# Altium integrated library Molex Modular Jack Right Angle.IntLib: 395 symbols (part 4 of 9)
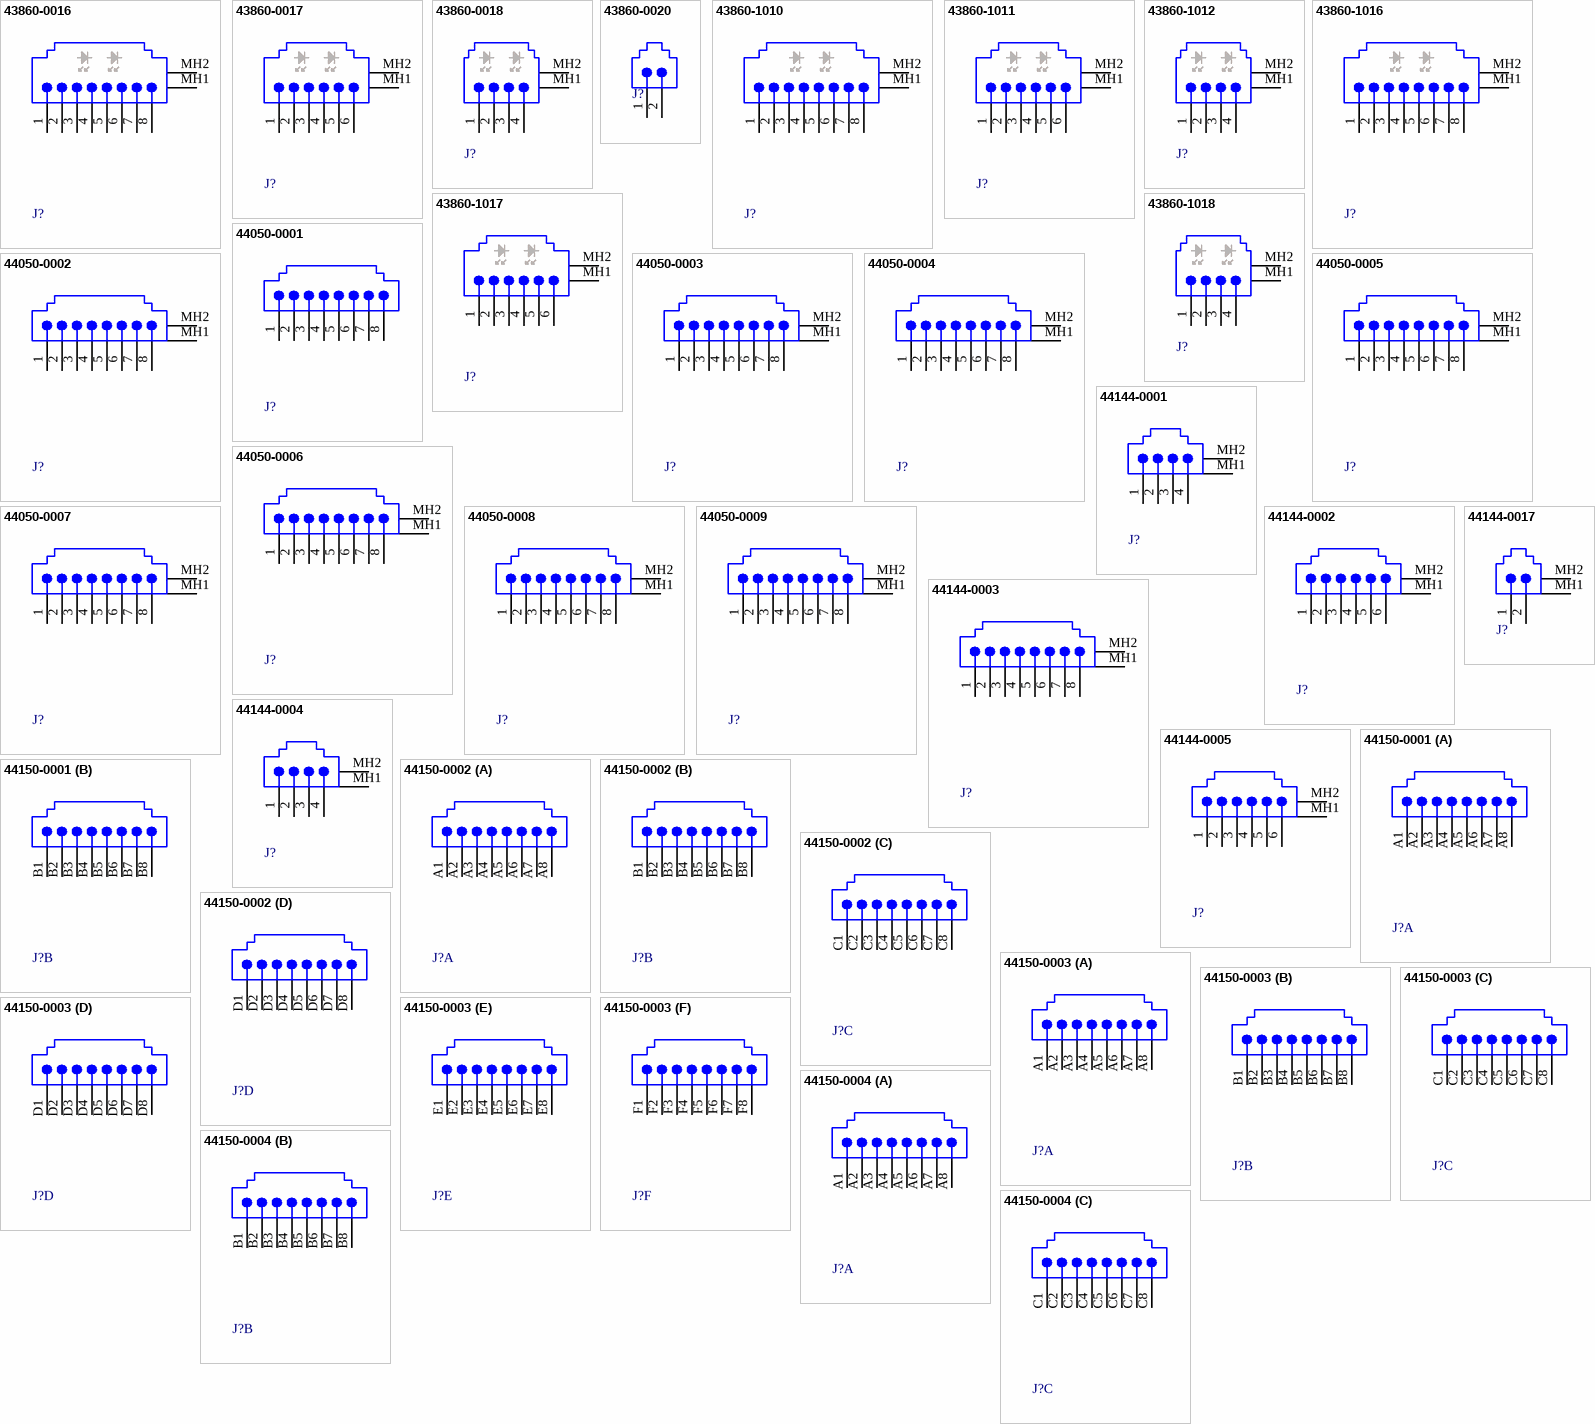
[diagram p27: symbols 43860-0016 to 44150-0004]

## 43860-0017
designator J?
Right Angle, Low Profile, with offset Panel Grounding Tabs, Inverted Shielded Version Modular Jack with Lightpipes; ManufacturerRecommends: LED Package type 0805 or 0603; Ports: 1; Positions/Loaded: Port1 - 6/6; PerformanceCategory: 3; PCB_Mounting: Thru-Hole; PCB_Layout: Shows Position of Manufacturer's Recommended SMT LED, Package Type 0805 shown on Mechanical Layer 1.; DrillSize: Nominal, Rounded to nearest 0.05mm; PCB_Layout: Complies with Manufacturer's Recommendation.; Published: 25-Jun-2002; DatasheetDocument: 17-Dec-2001; PackageDocument: 17-Dec-2001; PackageReference: 43860-0017; Publisher: Altium Limited; ComponentLink1Description: Manufacturer Link; ComponentLink1URL: http://www.molex.com/; ComponentLink2Description: Datasheet; ComponentLink2URL: http://www.molex.com/cmc_upload/common_files/1222003_mx43860b.pdf
footprint 43860-0017 (Connector; PCB Jack, Thru-Hole; 1-Port, 6 Positions, 6 Loaded; Shielded with Lightpipes; Right Angle)
signal-integrity model Modular Jack
pins: 1, 2, 3, 4, 5, 6, MH1 Shield, MH2 Shield

## 43860-0018
designator J?
Right Angle, Low Profile, with offset Panel Grounding Tabs, Inverted Shielded Version Modular Jack with Lightpipes; ManufacturerRecommends: LED Package type 0805 or 0603; Ports: 1; Positions/Loaded: Port1 - 6/4; PerformanceCategory: 3; PCB_Mounting: Thru-Hole; PCB_Layout: Shows Position of Manufacturer's Recommended SMT LED, Package Type 0805 shown on Mechanical Layer 1.; DrillSize: Nominal, Rounded to nearest 0.05mm; PCB_Layout: Complies with Manufacturer's Recommendation.; Published: 25-Jun-2002; DatasheetDocument: 17-Dec-2001; PackageDocument: 17-Dec-2001; PackageReference: 43860-0018; Publisher: Altium Limited; ComponentLink1Description: Manufacturer Link; ComponentLink1URL: http://www.molex.com/; ComponentLink2Description: Datasheet; ComponentLink2URL: http://www.molex.com/cmc_upload/common_files/1222003_mx43860b.pdf
footprint 43860-0018 (Connector; PCB Jack, Thru-Hole; 1-Port, 6 Positions, 4 Loaded; Shielded with Lightpipes; Right Angle)
signal-integrity model Modular Jack
pins: 1, 2, 3, 4, MH1 Shield, MH2 Shield

## 43860-0020
designator J?
Right Angle, Low Profile, Inverted, Unshielded PCB Jack; Ports: 1; Positions/Loaded: Port1 - 6/2; PerformanceCategory: 3; PCB_Mounting: Thru-Hole; DrillSize: Nominal, Rounded to nearest 0.05mm; PCB_Layout: Complies with Manufacturer's Recommendation.; Published: 25-Jun-2002; DatasheetDocument: 18-Dec-2001; PackageDocument: 18-Dec-2001; PackageReference: 43860-0020; Publisher: Altium Limited; ComponentLink1Description: Manufacturer Link; ComponentLink1URL: http://www.molex.com/; ComponentLink2Description: Datasheet; ComponentLink2URL: http://www.molex.com/cmc_upload/common_files/1222003_mx43860a.pdf
footprint 43860-0020 (Connector; PCB Jack, Thru-Hole; 1-Port, 6 Positions, 2 Loaded; Unshielded without Lightpipes; Right Angle)
signal-integrity model Modular Jack
pins: 1, 2

## 43860-1010
designator J?
Right Angle, Low Profile, with all Panel Grounding Tabs, Inverted Shielded Version Modular Jack with High Temperature Lightpipes; ManufacturerRecommends: LED Package type 0805 or 0603; Ports: 1; Positions/Loaded: Port1 - 8/8; PerformanceCategory: 3; PCB_Mounting: Thru-Hole; PCB_Layout: Shows Position of Manufacturer's Recommended SMT LED, Package Type 0805 shown on Mechanical Layer 1.; DrillSize: Nominal, Rounded to nearest 0.05mm; PCB_Layout: Complies with Manufacturer's Recommendation.; Published: 25-Jun-2002; DatasheetDocument: 17-Dec-2001; PackageDocument: 17-Dec-2001; PackageReference: 43860-1010; Publisher: Altium Limited; ComponentLink1Description: Manufacturer Link; ComponentLink1URL: http://www.molex.com/; ComponentLink2Description: Datasheet; ComponentLink2URL: http://www.molex.com/cmc_upload/common_files/1222003_mx43860c.pdf
footprint 43860-1010 (Connector; PCB Jack, Thru-Hole; 1-Port, 8 Positions, 8 Loaded; Shielded with Lightpipes; Right Angle)
signal-integrity model Modular Jack
pins: 1, 2, 3, 4, 5, 6, 7, 8, MH1 Shield, MH2 Shield

## 43860-1011
designator J?
Right Angle, Low Profile, with all Panel Grounding Tabs, Inverted Shielded Version Modular Jack with High Temperature Lightpipes; ManufacturerRecommends: LED Package type 0805 or 0603; Ports: 1; Positions/Loaded: Port1 - 6/6; PerformanceCategory: 3; PCB_Mounting: Thru-Hole; PCB_Layout: Shows Position of Manufacturer's Recommended SMT LED, Package Type 0805 shown on Mechanical Layer 1.; DrillSize: Nominal, Rounded to nearest 0.05mm; PCB_Layout: Complies with Manufacturer's Recommendation.; Published: 25-Jun-2002; DatasheetDocument: 17-Dec-2001; PackageDocument: 17-Dec-2001; PackageReference: 43860-1011; Publisher: Altium Limited; ComponentLink1Description: Manufacturer Link; ComponentLink1URL: http://www.molex.com/; ComponentLink2Description: Datasheet; ComponentLink2URL: http://www.molex.com/cmc_upload/common_files/1222003_mx43860c.pdf
footprint 43860-1011 (Connector; PCB Jack, Thru-Hole; 1-Port, 6 Positions, 6 Loaded; Shielded with Lightpipes; Right Angle)
signal-integrity model Modular Jack
pins: 1, 2, 3, 4, 5, 6, MH1 Shield, MH2 Shield

## 43860-1012
designator J?
Right Angle, Low Profile, with all Panel Grounding Tabs, Inverted Shielded Version Modular Jack with High Temperature Lightpipes; ManufacturerRecommends: LED Package type 0805 or 0603; Ports: 1; Positions/Loaded: Port1 - 6/4; PerformanceCategory: 3; PCB_Mounting: Thru-Hole; PCB_Layout: Shows Position of Manufacturer's Recommended SMT LED, Package Type 0805 shown on Mechanical Layer 1.; DrillSize: Nominal, Rounded to nearest 0.05mm; PCB_Layout: Complies with Manufacturer's Recommendation.; Published: 25-Jun-2002; DatasheetDocument: 17-Dec-2001; PackageDocument: 17-Dec-2001; PackageReference: 43860-1012; Publisher: Altium Limited; ComponentLink1Description: Manufacturer Link; ComponentLink1URL: http://www.molex.com/; ComponentLink2Description: Datasheet; ComponentLink2URL: http://www.molex.com/cmc_upload/common_files/1222003_mx43860c.pdf
footprint 43860-1012 (Connector; PCB Jack, Thru-Hole; 1-Port, 6 Positions, 4 Loaded; Shielded with Lightpipes; Right Angle)
signal-integrity model Modular Jack
pins: 1, 2, 3, 4, MH1 Shield, MH2 Shield

## 43860-1016
designator J?
Right Angle, Low Profile, with offset Panel Grounding Tabs, Inverted Shielded Version Modular Jack with High Temperature Lightpipes; ManufacturerRecommends: LED Package type 0805 or 0603; Ports: 1; Positions/Loaded: Port1 - 8/8; PerformanceCategory: 3; PCB_Mounting: Thru-Hole; PCB_Layout: Shows Position of Manufacturer's Recommended SMT LED, Package Type 0805 shown on Mechanical Layer 1.; DrillSize: Nominal, Rounded to nearest 0.05mm; PCB_Layout: Complies with Manufacturer's Recommendation.; Published: 25-Jun-2002; DatasheetDocument: 17-Dec-2001; PackageDocument: 17-Dec-2001; PackageReference: 43860-1016; Publisher: Altium Limited; ComponentLink1Description: Manufacturer Link; ComponentLink1URL: http://www.molex.com/; ComponentLink2Description: Datasheet; ComponentLink2URL: http://www.molex.com/cmc_upload/common_files/1222003_mx43860c.pdf
footprint 43860-1016 (Connector; PCB Jack, Thru-Hole; 1-Port, 8 Positions, 8 Loaded; Shielded with Lightpipes; Right Angle)
signal-integrity model Modular Jack
pins: 1, 2, 3, 4, 5, 6, 7, 8, MH1 Shield, MH2 Shield

## 43860-1017
designator J?
Right Angle, Low Profile, with offset Panel Grounding Tabs, Inverted Shielded Version Modular Jack with High Temperature Lightpipes; ManufacturerRecommends: LED Package type 0805 or 0603; Ports: 1; Positions/Loaded: Port1 - 6/6; PerformanceCategory: 3; PCB_Mounting: Thru-Hole; PCB_Layout: Shows Position of Manufacturer's Recommended SMT LED, Package Type 0805 shown on Mechanical Layer 1.; DrillSize: Nominal, Rounded to nearest 0.05mm; PCB_Layout: Complies with Manufacturer's Recommendation.; Published: 25-Jun-2002; DatasheetDocument: 17-Dec-2001; PackageDocument: 17-Dec-2001; PackageReference: 43860-1017; Publisher: Altium Limited; ComponentLink1Description: Manufacturer Link; ComponentLink1URL: http://www.molex.com/; ComponentLink2Description: Datasheet; ComponentLink2URL: http://www.molex.com/cmc_upload/common_files/1222003_mx43860c.pdf
footprint 43860-1017 (Connector; PCB Jack, Thru-Hole; 1-Port, 6 Positions, 6 Loaded; Shielded with Lightpipes; Right Angle)
signal-integrity model Modular Jack
pins: 1, 2, 3, 4, 5, 6, MH1 Shield, MH2 Shield

## 43860-1018
designator J?
Right Angle, Low Profile, with offset Panel Grounding Tabs, Inverted Shielded Version Modular Jack with High Temperature Lightpipes; ManufacturerRecommends: LED Package type 0805 or 0603; Ports: 1; Positions/Loaded: Port1 - 6/4; PerformanceCategory: 3; PCB_Mounting: Thru-Hole; PCB_Layout: Shows Position of Manufacturer's Recommended SMT LED, Package Type 0805 shown on Mechanical Layer 1.; DrillSize: Nominal, Rounded to nearest 0.05mm; PCB_Layout: Complies with Manufacturer's Recommendation.; Published: 25-Jun-2002; DatasheetDocument: 17-Dec-2001; PackageDocument: 17-Dec-2001; PackageReference: 43860-1018; Publisher: Altium Limited; ComponentLink1Description: Manufacturer Link; ComponentLink1URL: http://www.molex.com/; ComponentLink2Description: Datasheet; ComponentLink2URL: http://www.molex.com/cmc_upload/common_files/1222003_mx43860c.pdf
footprint 43860-1018 (Connector; PCB Jack, Thru-Hole; 1-Port, 6 Positions, 4 Loaded; Shielded with Lightpipes; Right Angle)
signal-integrity model Modular Jack
pins: 1, 2, 3, 4, MH1 Shield, MH2 Shield

## 44050-0001
designator J?
High Speed, Right Angle, Low Profile Unshielded Modular Jack; Ports: 1; Positions/Loaded: Port1 - 8/8; PerformanceCategory: 5; PCB_Mounting: Thru-Hole; DrillSize: Nominal, Rounded to nearest 0.05mm; PCB_Layout: Complies with Manufacturer's Recommendation.; Published: 25-Jun-2002; DatasheetDocument: 12-Dec-2001; PackageDocument: 12-Dec-2001; PackageReference: 44050-0001; Publisher: Altium Limited; ComponentLink1Description: Manufacturer Link; ComponentLink1URL: http://www.molex.com/; ComponentLink2Description: Datasheet; ComponentLink2URL: http://www.molex.com/cmc_upload/common_files/1222003_mx44050.pdf
footprint 44050-0001 (Connector; PCB Jack, Thru-Hole; 1-Port, 8 Positions, 8 Loaded; Unshielded without Lightpipes; Right Angle)
signal-integrity model Modular Jack
pins: 1, 2, 3, 4, 5, 6, 7, 8

## 44050-0002
designator J?
High Speed, Right Angle, with all Panel Grounding Tabs, Low Profile Shielded Modular Jack; Ports: 1; Positions/Loaded: Port1 - 8/8; PerformanceCategory: 5; PCB_Mounting: Thru-Hole; DrillSize: Nominal, Rounded to nearest 0.05mm; PCB_Layout: Complies with Manufacturer's Recommendation.; Published: 25-Jun-2002; DatasheetDocument: 12-Dec-2001; PackageDocument: 12-Dec-2001; PackageReference: 44050-0002; Publisher: Altium Limited; ComponentLink1Description: Manufacturer Link; ComponentLink1URL: http://www.molex.com/; ComponentLink2Description: Datasheet; ComponentLink2URL: http://www.molex.com/cmc_upload/common_files/1222003_mx44050.pdf
footprint 44050-0002 (Connector; PCB Jack, Thru-Hole; 1-Port, 8 Positions, 8 Loaded; Shielded without Lightpipes; Right Angle)
signal-integrity model Modular Jack
pins: 1, 2, 3, 4, 5, 6, 7, 8, MH1 Shield, MH2 Shield

## 44050-0003
designator J?
High Speed, Right Angle, with all Panel Grounding Tabs, Low Profile Shielded Modular Jack; Ports: 1; Positions/Loaded: Port1 - 8/8; PerformanceCategory: 5; PCB_Mounting: Thru-Hole; DrillSize: Nominal, Rounded to nearest 0.05mm; PCB_Layout: Complies with Manufacturer's Recommendation.; Published: 25-Jun-2002; DatasheetDocument: 12-Dec-2001; PackageDocument: 12-Dec-2001; PackageReference: 44050-0003; Publisher: Altium Limited; ComponentLink1Description: Manufacturer Link; ComponentLink1URL: http://www.molex.com/; ComponentLink2Description: Datasheet; ComponentLink2URL: http://www.molex.com/cmc_upload/common_files/1222003_mx44050.pdf
footprint 44050-0003 (Connector; PCB Jack, Thru-Hole; 1-Port, 8 Positions, 8 Loaded; Shielded without Lightpipes; Right Angle)
signal-integrity model Modular Jack
pins: 1, 2, 3, 4, 5, 6, 7, 8, MH1 Shield, MH2 Shield

## 44050-0004
designator J?
High Speed, Right Angle, with offset Panel Grounding Tabs, Low Profile Shielded Modular Jack; Ports: 1; Positions/Loaded: Port1 - 8/8; PerformanceCategory: 5; PCB_Mounting: Thru-Hole; DrillSize: Nominal, Rounded to nearest 0.05mm; PCB_Layout: Complies with Manufacturer's Recommendation.; Published: 25-Jun-2002; DatasheetDocument: 12-Dec-2001; PackageDocument: 12-Dec-2001; PackageReference: 44050-0004; Publisher: Altium Limited; ComponentLink1Description: Manufacturer Link; ComponentLink1URL: http://www.molex.com/; ComponentLink2Description: Datasheet; ComponentLink2URL: http://www.molex.com/cmc_upload/common_files/1222003_mx44050.pdf
footprint 44050-0004 (Connector; PCB Jack, Thru-Hole; 1-Port, 8 Positions, 8 Loaded; Shielded without Lightpipes; Right Angle)
signal-integrity model Modular Jack
pins: 1, 2, 3, 4, 5, 6, 7, 8, MH1 Shield, MH2 Shield

## 44050-0005
designator J?
High Speed, Right Angle, with offset Panel Grounding Tabs, Low Profile Shielded Modular Jack; Ports: 1; Positions/Loaded: Port1 - 8/8; PerformanceCategory: 5; PCB_Mounting: Thru-Hole; DrillSize: Nominal, Rounded to nearest 0.05mm; PCB_Layout: Complies with Manufacturer's Recommendation.; Published: 25-Jun-2002; DatasheetDocument: 12-Dec-2001; PackageDocument: 12-Dec-2001; PackageReference: 44050-0005; Publisher: Altium Limited; ComponentLink1Description: Manufacturer Link; ComponentLink1URL: http://www.molex.com/; ComponentLink2Description: Datasheet; ComponentLink2URL: http://www.molex.com/cmc_upload/common_files/1222003_mx44050.pdf
footprint 44050-0005 (Connector; PCB Jack, Thru-Hole; 1-Port, 8 Positions, 8 Loaded; Shielded without Lightpipes; Right Angle)
signal-integrity model Modular Jack
pins: 1, 2, 3, 4, 5, 6, 7, 8, MH1 Shield, MH2 Shield

## 44050-0006
designator J?
High Speed, Right Angle, with all Panel Grounding Tabs, Low Profile Shielded Modular Jack; Ports: 1; Positions/Loaded: Port1 - 8/8; PerformanceCategory: 5; PCB_Mounting: Thru-Hole; DrillSize: Nominal, Rounded to nearest 0.05mm; PCB_Layout: Complies with Manufacturer's Recommendation.; Published: 25-Jun-2002; DatasheetDocument: 12-Dec-2001; PackageDocument: 12-Dec-2001; PackageReference: 44050-0006; Publisher: Altium Limited; ComponentLink1Description: Manufacturer Link; ComponentLink1URL: http://www.molex.com/; ComponentLink2Description: Datasheet; ComponentLink2URL: http://www.molex.com/cmc_upload/common_files/1222003_mx44050.pdf
footprint 44050-0006 (Connector; PCB Jack, Thru-Hole; 1-Port, 8 Positions, 8 Loaded; Shielded without Lightpipes; Right Angle)
signal-integrity model Modular Jack
pins: 1, 2, 3, 4, 5, 6, 7, 8, MH1 Shield, MH2 Shield

## 44050-0007
designator J?
High Speed, Right Angle, with all Panel Grounding Tabs, Low Profile Shielded Modular Jack; Ports: 1; Positions/Loaded: Port1 - 8/8; PerformanceCategory: 5; PCB_Mounting: Thru-Hole; DrillSize: Nominal, Rounded to nearest 0.05mm; PCB_Layout: Complies with Manufacturer's Recommendation.; Published: 25-Jun-2002; DatasheetDocument: 12-Dec-2001; PackageDocument: 12-Dec-2001; PackageReference: 44050-0007; Publisher: Altium Limited; ComponentLink1Description: Manufacturer Link; ComponentLink1URL: http://www.molex.com/; ComponentLink2Description: Datasheet; ComponentLink2URL: http://www.molex.com/cmc_upload/common_files/1222003_mx44050.pdf
footprint 44050-0007 (Connector; PCB Jack, Thru-Hole; 1-Port, 8 Positions, 8 Loaded; Shielded without Lightpipes; Right Angle)
signal-integrity model Modular Jack
pins: 1, 2, 3, 4, 5, 6, 7, 8, MH1 Shield, MH2 Shield

## 44050-0008
designator J?
High Speed, Right Angle, with offset Panel Grounding Tabs, Low Profile Shielded Modular Jack; Ports: 1; Positions/Loaded: Port1 - 8/8; PerformanceCategory: 5; PCB_Mounting: Thru-Hole; DrillSize: Nominal, Rounded to nearest 0.05mm; PCB_Layout: Complies with Manufacturer's Recommendation.; Published: 25-Jun-2002; DatasheetDocument: 12-Dec-2001; PackageDocument: 12-Dec-2001; PackageReference: 44050-0008; Publisher: Altium Limited; ComponentLink1Description: Manufacturer Link; ComponentLink1URL: http://www.molex.com/; ComponentLink2Description: Datasheet; ComponentLink2URL: http://www.molex.com/cmc_upload/common_files/1222003_mx44050.pdf
footprint 44050-0008 (Connector; PCB Jack, Thru-Hole; 1-Port, 8 Positions, 8 Loaded; Shielded without Lightpipes; Right Angle)
signal-integrity model Modular Jack
pins: 1, 2, 3, 4, 5, 6, 7, 8, MH1 Shield, MH2 Shield

## 44050-0009
designator J?
High Speed, Right Angle, with offset Panel Grounding Tabs, Low Profile Shielded Modular Jack; Ports: 1; Positions/Loaded: Port1 - 8/8; PerformanceCategory: 5; PCB_Mounting: Thru-Hole; DrillSize: Nominal, Rounded to nearest 0.05mm; PCB_Layout: Complies with Manufacturer's Recommendation.; Published: 25-Jun-2002; DatasheetDocument: 12-Dec-2001; PackageDocument: 12-Dec-2001; PackageReference: 44050-0009; Publisher: Altium Limited; ComponentLink1Description: Manufacturer Link; ComponentLink1URL: http://www.molex.com/; ComponentLink2Description: Datasheet; ComponentLink2URL: http://www.molex.com/cmc_upload/common_files/1222003_mx44050.pdf
footprint 44050-0009 (Connector; PCB Jack, Thru-Hole; 1-Port, 8 Positions, 8 Loaded; Shielded without Lightpipes; Right Angle)
signal-integrity model Modular Jack
pins: 1, 2, 3, 4, 5, 6, 7, 8, MH1 Shield, MH2 Shield

## 44144-0001
designator J?
SMT, Right Angle, Low Profile, with Flush Fitting Nails PCB Jack; Ports: 1; Positions/Loaded: Port1 - 8/4; PerformanceCategory: 3; DrillSize: Nominal, Rounded to nearest 0.05mm; PCB_Layout: Complies with Manufacturer's Recommendation.; Published: 25-Jun-2002; DatasheetDocument: 19-Dec-2001; PackageDocument: 19-Dec-2001; PackageReference: 44144-0001; Publisher: Altium Limited; PCB_Mounting: SMT; ComponentLink1Description: Manufacturer Link; ComponentLink1URL: http://www.molex.com/; ComponentLink2Description: Datasheet; ComponentLink2URL: http://www.molex.com/cmc_upload/common_files/1222003_mx44144.pdf
footprint 44144-0001 (Connector; PCB Jack, SM; 1-Port, 8 Positions, 4 Loaded; Unshielded without Lightpipes; Right Angle)
signal-integrity model Modular Jack
pins: 1, 2, 3, 4, MH1 Shield, MH2 Shield

## 44144-0002
designator J?
SMT, Right Angle, Low Profile, with Flush Fitting Nails PCB Jack; Ports: 1; Positions/Loaded: Port1 - 8/6; PerformanceCategory: 3; DrillSize: Nominal, Rounded to nearest 0.05mm; PCB_Layout: Complies with Manufacturer's Recommendation.; Published: 25-Jun-2002; DatasheetDocument: 19-Dec-2001; PackageDocument: 19-Dec-2001; PackageReference: 44144-0002; Publisher: Altium Limited; PCB_Mounting: SMT; ComponentLink1Description: Manufacturer Link; ComponentLink1URL: http://www.molex.com/; ComponentLink2Description: Datasheet; ComponentLink2URL: http://www.molex.com/cmc_upload/common_files/1222003_mx44144.pdf
footprint 44144-0002 (Connector; PCB Jack, SM; 1-Port, 8 Positions, 6 Loaded; Unshielded without Lightpipes; Right Angle)
signal-integrity model Modular Jack
pins: 1, 2, 3, 4, 5, 6, MH1 Shield, MH2 Shield

## 44144-0003
designator J?
SMT, Right Angle, Low Profile, with Flush Fitting Nails PCB Jack; Ports: 1; Positions/Loaded: Port1 - 8/8; PerformanceCategory: 3; DrillSize: Nominal, Rounded to nearest 0.05mm; PCB_Layout: Complies with Manufacturer's Recommendation.; Published: 25-Jun-2002; DatasheetDocument: 19-Dec-2001; PackageDocument: 19-Dec-2001; PackageReference: 44144-0003; Publisher: Altium Limited; PCB_Mounting: SMT; ComponentLink1Description: Manufacturer Link; ComponentLink1URL: http://www.molex.com/; ComponentLink2Description: Datasheet; ComponentLink2URL: http://www.molex.com/cmc_upload/common_files/1222003_mx44144.pdf
footprint 44144-0003 (Connector; PCB Jack, SM; 1-Port, 8 Positions, 8 Loaded; Unshielded without Lightpipes; Right Angle)
signal-integrity model Modular Jack
pins: 1, 2, 3, 4, 5, 6, 7, 8, MH1 Shield, MH2 Shield

## 44144-0004
designator J?
SMT, Right Angle, Low Profile, with Flush Fitting Nails PCB Jack; Ports: 1; Positions/Loaded: Port1 - 6/4; PerformanceCategory: 3; DrillSize: Nominal, Rounded to nearest 0.05mm; PCB_Layout: Complies with Manufacturer's Recommendation.; Published: 25-Jun-2002; DatasheetDocument: 19-Dec-2001; PackageDocument: 19-Dec-2001; PackageReference: 44144-0004; Publisher: Altium Limited; PCB_Mounting: SMT; ComponentLink1Description: Manufacturer Link; ComponentLink1URL: http://www.molex.com/; ComponentLink2Description: Datasheet; ComponentLink2URL: http://www.molex.com/cmc_upload/common_files/1222003_mx44144.pdf
footprint 44144-0004 (Connector; PCB Jack, SM; 1-Port, 6 Positions, 4 Loaded; Unshielded without Lightpipes; Right Angle)
signal-integrity model Modular Jack
pins: 1, 2, 3, 4, MH1 Shield, MH2 Shield

## 44144-0005
designator J?
SMT, Right Angle, Low Profile, with Flush Fitting Nails PCB Jack; Ports: 1; Positions/Loaded: Port1 - 6/6; PerformanceCategory: 3; DrillSize: Nominal, Rounded to nearest 0.05mm; PCB_Layout: Complies with Manufacturer's Recommendation.; Published: 25-Jun-2002; DatasheetDocument: 19-Dec-2001; PackageDocument: 19-Dec-2001; PackageReference: 44144-0005; Publisher: Altium Limited; PCB_Mounting: SMT; ComponentLink1Description: Manufacturer Link; ComponentLink1URL: http://www.molex.com/; ComponentLink2Description: Datasheet; ComponentLink2URL: http://www.molex.com/cmc_upload/common_files/1222003_mx44144.pdf
footprint 44144-0005 (Connector; PCB Jack, SM; 1-Port, 6 Positions, 6 Loaded; Unshielded without Lightpipes; Right Angle)
signal-integrity model Modular Jack
pins: 1, 2, 3, 4, 5, 6, MH1 Shield, MH2 Shield

## 44144-0017
designator J?
SMT, Right Angle, Low Profile, with Flush Fitting Nails PCB Jack; Ports: 1; Positions/Loaded: Port1 - 6/2; PerformanceCategory: 3; DrillSize: Nominal, Rounded to nearest 0.05mm; PCB_Layout: Complies with Manufacturer's Recommendation.; Published: 25-Jun-2002; DatasheetDocument: 19-Dec-2001; PackageDocument: 19-Dec-2001; PackageReference: 44144-0017; Publisher: Altium Limited; PCB_Mounting: SMT; ComponentLink1Description: Manufacturer Link; ComponentLink1URL: http://www.molex.com/; ComponentLink2Description: Datasheet; ComponentLink2URL: http://www.molex.com/cmc_upload/common_files/1222003_mx44144.pdf
footprint 44144-0017 (Connector; PCB Jack, SM; 1-Port, 6 Positions, 2 Loaded; Unshielded without Lightpipes; Right Angle)
signal-integrity model Modular Jack
pins: 1, 2, MH1 Shield, MH2 Shield

## 44150-0001
designator J?
High Speed, Ganged, Right Angle, Snap-Fit Pegs, Low Profile Unshielded, Modular Jack; Ports: 2; Positions/Loaded: All Ports - 8/8; PerformanceCategory: 5; PCB_Mounting: Thru-Hole; DrillSize: Nominal, Rounded to nearest 0.05mm; PCB_Layout: Complies with Manufacturer's Recommendation.; Published: 25-Jun-2002; DatasheetDocument: 12-Dec-2001; PackageDocument: 12-Dec-2001; PackageReference: 44150-0001; Publisher: Altium Limited; ComponentLink1Description: Manufacturer Link; ComponentLink1URL: http://www.molex.com/; ComponentLink2Description: Datasheet; ComponentLink2URL: http://www.molex.com/cmc_upload/common_files/1222003_mx44150.pdf
footprint 44150-0001 (Connector; PCB Jack, Thru-Hole; 2-Port, 8 Positions, 8 Loaded; Unshielded without Lightpipes; Right Angle)
signal-integrity model Modular Jack
part A pins: A1, A2, A3, A4, A5, A6, A7, A8
part B pins: B1, B2, B3, B4, B5, B6, B7, B8

## 44150-0002
designator J?
High Speed, Ganged, Right Angle, Snap-Fit Pegs, Low Profile Unshielded, Modular Jack; Ports: 4; Positions/Loaded: All Ports - 8/8; PerformanceCategory: 5; PCB_Mounting: Thru-Hole; DrillSize: Nominal, Rounded to nearest 0.05mm; PCB_Layout: Complies with Manufacturer's Recommendation.; Published: 25-Jun-2002; DatasheetDocument: 12-Dec-2001; PackageDocument: 12-Dec-2001; PackageReference: 44150-0002; Publisher: Altium Limited; ComponentLink1Description: Manufacturer Link; ComponentLink1URL: http://www.molex.com/; ComponentLink2Description: Datasheet; ComponentLink2URL: http://www.molex.com/cmc_upload/common_files/1222003_mx44150.pdf
footprint 44150-0002 (Connector; PCB Jack, Thru-Hole; 4-Port, 8 Positions, 8 Loaded; Unshielded without Lightpipes; Right Angle)
signal-integrity model Modular Jack
part A pins: A1, A2, A3, A4, A5, A6, A7, A8
part B pins: B1, B2, B3, B4, B5, B6, B7, B8
part C pins: C1, C2, C3, C4, C5, C6, C7, C8
part D pins: D1, D2, D3, D4, D5, D6, D7, D8

## 44150-0003
designator J?
High Speed, Ganged, Right Angle, Snap-Fit Pegs, Low Profile Unshielded, Modular Jack; Ports: 6; Positions/Loaded: All Ports - 8/8; PerformanceCategory: 5; PCB_Mounting: Thru-Hole; DrillSize: Nominal, Rounded to nearest 0.05mm; PCB_Layout: Complies with Manufacturer's Recommendation.; Published: 25-Jun-2002; DatasheetDocument: 12-Dec-2001; PackageDocument: 12-Dec-2001; PackageReference: 44150-0003; Publisher: Altium Limited; ComponentLink1Description: Manufacturer Link; ComponentLink1URL: http://www.molex.com/; ComponentLink2Description: Datasheet; ComponentLink2URL: http://www.molex.com/cmc_upload/common_files/1222003_mx44150.pdf
footprint 44150-0003 (Connector; PCB Jack, Thru-Hole; 6-Port, 8 Positions, 8 Loaded; Unshielded without Lightpipes; Right Angle)
signal-integrity model Modular Jack
part A pins: A1, A2, A3, A4, A5, A6, A7, A8
part B pins: B1, B2, B3, B4, B5, B6, B7, B8
part C pins: C1, C2, C3, C4, C5, C6, C7, C8
part D pins: D1, D2, D3, D4, D5, D6, D7, D8
part E pins: E1, E2, E3, E4, E5, E6, E7, E8
part F pins: F1, F2, F3, F4, F5, F6, F7, F8

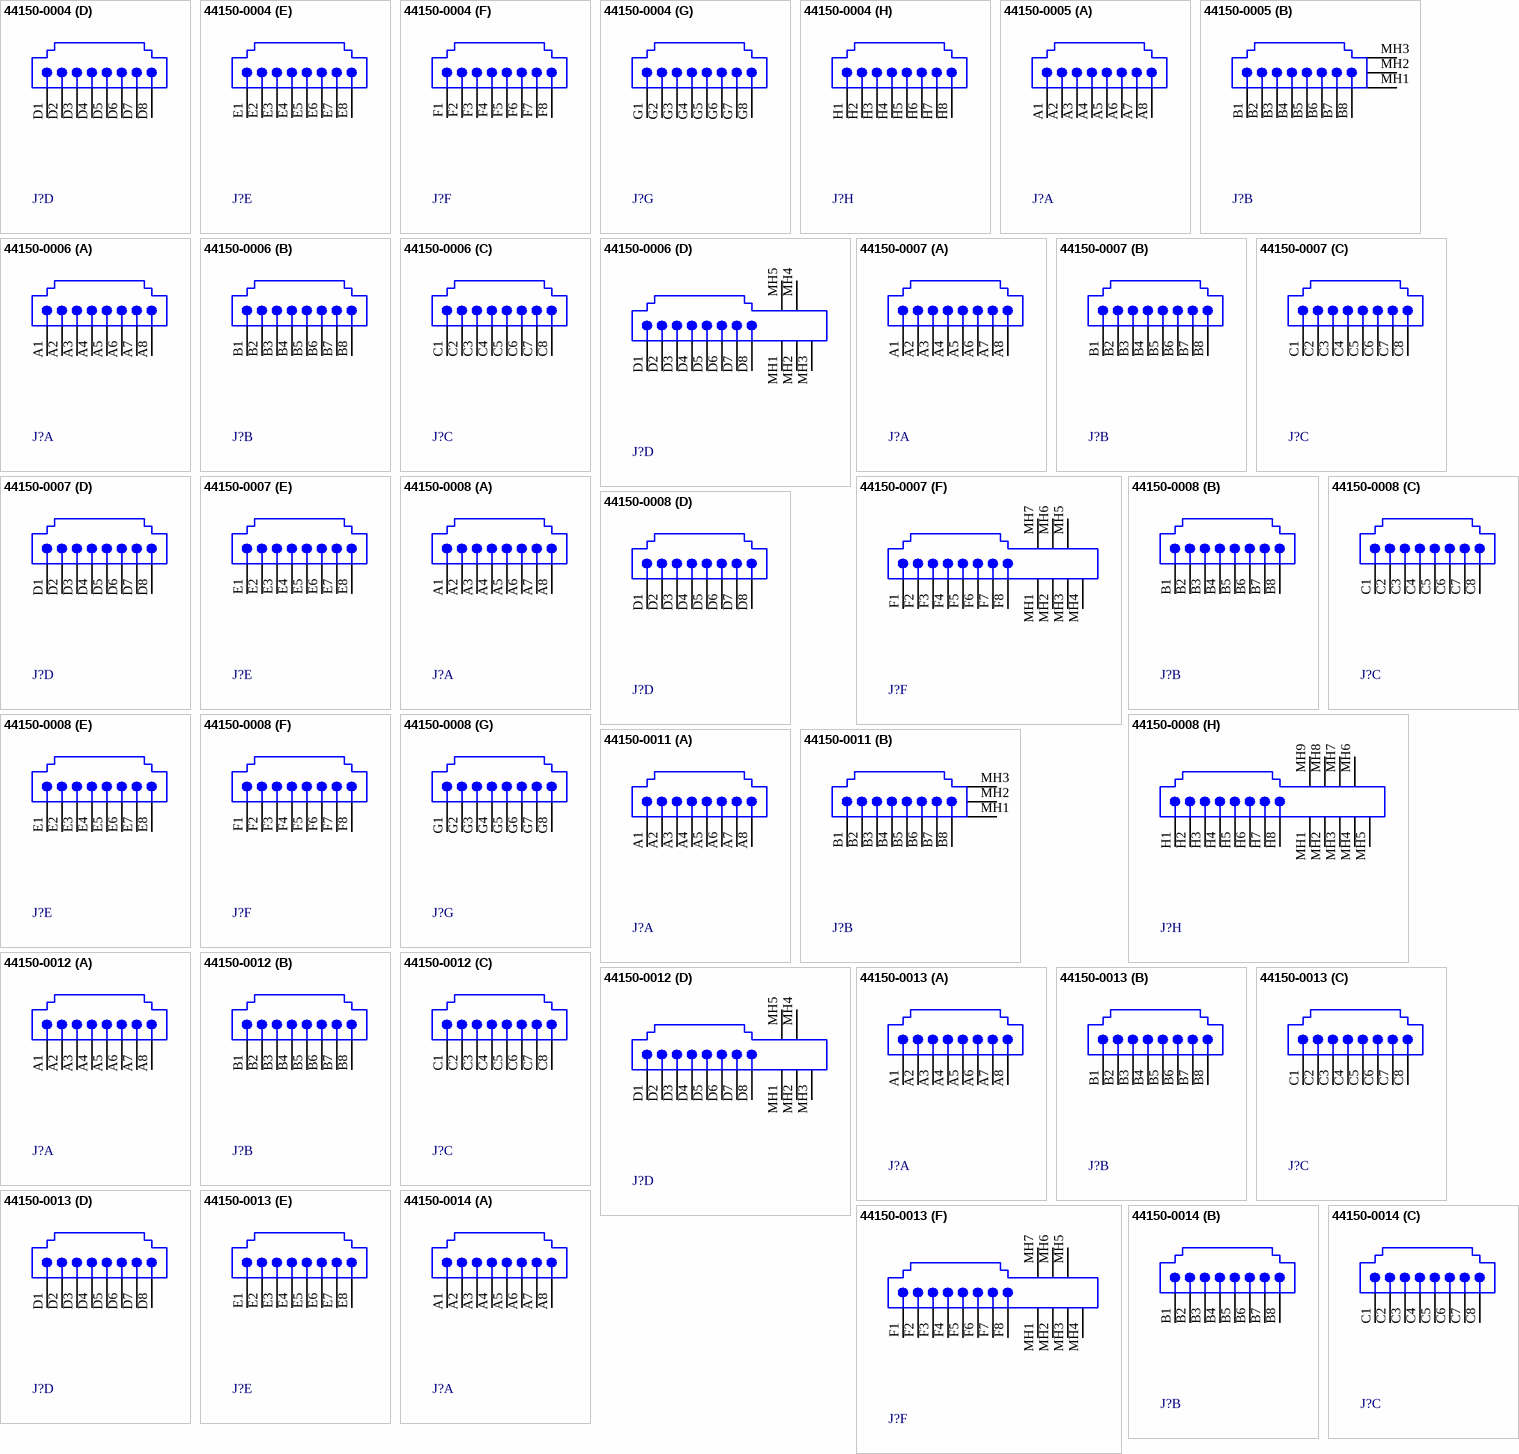
[diagram p8: symbols 44150-0004 to 44150-0014]

## 44150-0004
designator J?
High Speed, Ganged, Right Angle, Snap-Fit Pegs, Low Profile Unshielded, Modular Jack; Ports: 8; Positions/Loaded: All Ports - 8/8; PerformanceCategory: 5; PCB_Mounting: Thru-Hole; DrillSize: Nominal, Rounded to nearest 0.05mm; PCB_Layout: Complies with Manufacturer's Recommendation.; Published: 25-Jun-2002; DatasheetDocument: 12-Dec-2001; PackageDocument: 12-Dec-2001; PackageReference: 44150-0004; Publisher: Altium Limited; ComponentLink1Description: Manufacturer Link; ComponentLink1URL: http://www.molex.com/; ComponentLink2Description: Datasheet; ComponentLink2URL: http://www.molex.com/cmc_upload/common_files/1222003_mx44150.pdf
footprint 44150-0004 (Connector; PCB Jack, Thru-Hole; 8-Port, 8 Positions, 8 Loaded; Unshielded without Lightpipes; Right Angle)
signal-integrity model Modular Jack
part A pins: A1, A2, A3, A4, A5, A6, A7, A8
part B pins: B1, B2, B3, B4, B5, B6, B7, B8
part C pins: C1, C2, C3, C4, C5, C6, C7, C8
part D pins: D1, D2, D3, D4, D5, D6, D7, D8
part E pins: E1, E2, E3, E4, E5, E6, E7, E8
part F pins: F1, F2, F3, F4, F5, F6, F7, F8
part G pins: G1, G2, G3, G4, G5, G6, G7, G8
part H pins: H1, H2, H3, H4, H5, H6, H7, H8

## 44150-0005
designator J?
High Speed, Ganged, Right Angle, Snap-Fit Pegs, Low Profile Shielded, Modular Jack; Ports: 2; Positions/Loaded: All Ports - 8/8; PerformanceCategory: 5; PCB_Mounting: Thru-Hole; DrillSize: Nominal, Rounded to nearest 0.05mm; PCB_Layout: Complies with Manufacturer's Recommendation.; Published: 25-Jun-2002; DatasheetDocument: 12-Dec-2001; PackageDocument: 12-Dec-2001; PackageReference: 44150-0005; Publisher: Altium Limited; ComponentLink1Description: Manufacturer Link; ComponentLink1URL: http://www.molex.com/; ComponentLink2Description: Datasheet; ComponentLink2URL: http://www.molex.com/cmc_upload/common_files/1222003_mx44150.pdf
footprint 44150-0005 (Connector; PCB Jack, Thru-Hole; 2-Port, 8 Positions, 8 Loaded; Shielded without Lightpipes; Right Angle)
signal-integrity model Modular Jack
part A pins: A1, A2, A3, A4, A5, A6, A7, A8
part B pins: B1, B2, B3, B4, B5, B6, B7, B8, MH1 Shield, MH2 Shield, MH3 Shield

## 44150-0006
designator J?
High Speed, Ganged, Right Angle, Snap-Fit Pegs, Low Profile Shielded, Modular Jack; Ports: 4; Positions/Loaded: All Ports - 8/8; PerformanceCategory: 5; PCB_Mounting: Thru-Hole; DrillSize: Nominal, Rounded to nearest 0.05mm; PCB_Layout: Complies with Manufacturer's Recommendation.; Published: 25-Jun-2002; DatasheetDocument: 12-Dec-2001; PackageDocument: 12-Dec-2001; PackageReference: 44150-0006; Publisher: Altium Limited; ComponentLink1Description: Manufacturer Link; ComponentLink1URL: http://www.molex.com/; ComponentLink2Description: Datasheet; ComponentLink2URL: http://www.molex.com/cmc_upload/common_files/1222003_mx44150.pdf
footprint 44150-0006 (Connector; PCB Jack, Thru-Hole; 4-Port, 8 Positions, 8 Loaded; Shielded without Lightpipes; Right Angle)
signal-integrity model Modular Jack
part A pins: A1, A2, A3, A4, A5, A6, A7, A8
part B pins: B1, B2, B3, B4, B5, B6, B7, B8
part C pins: C1, C2, C3, C4, C5, C6, C7, C8
part D pins: D1, D2, D3, D4, D5, D6, D7, D8, MH1 Shield, MH2 Shield, MH3 Shield, MH4 Shield, MH5 Shield

## 44150-0007
designator J?
High Speed, Ganged, Right Angle, Snap-Fit Pegs, Low Profile Shielded, Modular Jack; Ports: 6; Positions/Loaded: All Ports - 8/8; PerformanceCategory: 5; PCB_Mounting: Thru-Hole; DrillSize: Nominal, Rounded to nearest 0.05mm; PCB_Layout: Complies with Manufacturer's Recommendation.; Published: 25-Jun-2002; DatasheetDocument: 12-Dec-2001; PackageDocument: 12-Dec-2001; PackageReference: 44150-0007; Publisher: Altium Limited; ComponentLink1Description: Manufacturer Link; ComponentLink1URL: http://www.molex.com/; ComponentLink2Description: Datasheet; ComponentLink2URL: http://www.molex.com/cmc_upload/common_files/1222003_mx44150.pdf
footprint 44150-0007 (Connector; PCB Jack, Thru-Hole; 6-Port, 8 Positions, 8 Loaded; Shielded without Lightpipes; Right Angle)
signal-integrity model Modular Jack
part A pins: A1, A2, A3, A4, A5, A6, A7, A8
part B pins: B1, B2, B3, B4, B5, B6, B7, B8
part C pins: C1, C2, C3, C4, C5, C6, C7, C8
part D pins: D1, D2, D3, D4, D5, D6, D7, D8
part E pins: E1, E2, E3, E4, E5, E6, E7, E8
part F pins: F1, F2, F3, F4, F5, F6, F7, F8, MH1 Shield, MH2 Shield, MH3 Shield, MH4 Shield, MH5 Shield, MH6 Shield, MH7 Shield

## 44150-0008
designator J?
High Speed, Ganged, Right Angle, Snap-Fit Pegs, Low Profile Shielded, Modular Jack; Ports: 8; Positions/Loaded: All Ports - 8/8; PerformanceCategory: 5; PCB_Mounting: Thru-Hole; DrillSize: Nominal, Rounded to nearest 0.05mm; PCB_Layout: Complies with Manufacturer's Recommendation.; Published: 25-Jun-2002; DatasheetDocument: 12-Dec-2001; PackageDocument: 12-Dec-2001; PackageReference: 44150-0008; Publisher: Altium Limited; ComponentLink1Description: Manufacturer Link; ComponentLink1URL: http://www.molex.com/; ComponentLink2Description: Datasheet; ComponentLink2URL: http://www.molex.com/cmc_upload/common_files/1222003_mx44150.pdf
footprint 44150-0008 (Connector; PCB Jack, Thru-Hole; 8-Port, 8 Positions, 8 Loaded; Shielded without Lightpipes; Right Angle)
signal-integrity model Modular Jack
part A pins: A1, A2, A3, A4, A5, A6, A7, A8
part B pins: B1, B2, B3, B4, B5, B6, B7, B8
part C pins: C1, C2, C3, C4, C5, C6, C7, C8
part D pins: D1, D2, D3, D4, D5, D6, D7, D8
part E pins: E1, E2, E3, E4, E5, E6, E7, E8
part F pins: F1, F2, F3, F4, F5, F6, F7, F8
part G pins: G1, G2, G3, G4, G5, G6, G7, G8
part H pins: H1, H2, H3, H4, H5, H6, H7, H8, MH1 Shield, MH2 Shield, MH3 Shield, MH4 Shield, MH5 Shield, MH6 Shield, MH7 Shield, MH8 Shield, MH9 Shield

## 44150-0011
designator J?
High Speed, Ganged, Right Angle, Snap-Fit Pegs, Low Profile Shielded, Modular Jack; Ports: 2; Positions/Loaded: All Ports - 8/8; PerformanceCategory: 5; PCB_Mounting: Thru-Hole; DrillSize: Nominal, Rounded to nearest 0.05mm; PCB_Layout: Complies with Manufacturer's Recommendation.; Published: 25-Jun-2002; DatasheetDocument: 12-Dec-2001; PackageDocument: 12-Dec-2001; PackageReference: 44150-0011; Publisher: Altium Limited; ComponentLink1Description: Manufacturer Link; ComponentLink1URL: http://www.molex.com/; ComponentLink2Description: Datasheet; ComponentLink2URL: http://www.molex.com/cmc_upload/common_files/1222003_mx44150.pdf
footprint 44150-0011 (Connector; PCB Jack, Thru-Hole; 2-Port, 8 Positions, 8 Loaded; Shielded without Lightpipes; Right Angle)
signal-integrity model Modular Jack
part A pins: A1, A2, A3, A4, A5, A6, A7, A8
part B pins: B1, B2, B3, B4, B5, B6, B7, B8, MH1 Shield, MH2 Shield, MH3 Shield

## 44150-0012
designator J?
High Speed, Ganged, Right Angle, Snap-Fit Pegs, Low Profile Shielded, Modular Jack; Ports: 4; Positions/Loaded: All Ports - 8/8; PerformanceCategory: 5; PCB_Mounting: Thru-Hole; DrillSize: Nominal, Rounded to nearest 0.05mm; PCB_Layout: Complies with Manufacturer's Recommendation.; Published: 25-Jun-2002; DatasheetDocument: 12-Dec-2001; PackageDocument: 12-Dec-2001; PackageReference: 44150-0012; Publisher: Altium Limited; ComponentLink1Description: Manufacturer Link; ComponentLink1URL: http://www.molex.com/; ComponentLink2Description: Datasheet; ComponentLink2URL: http://www.molex.com/cmc_upload/common_files/1222003_mx44150.pdf
footprint 44150-0012 (Connector; PCB Jack, Thru-Hole; 4-Port, 8 Positions, 8 Loaded; Shielded without Lightpipes; Right Angle)
signal-integrity model Modular Jack
part A pins: A1, A2, A3, A4, A5, A6, A7, A8
part B pins: B1, B2, B3, B4, B5, B6, B7, B8
part C pins: C1, C2, C3, C4, C5, C6, C7, C8
part D pins: D1, D2, D3, D4, D5, D6, D7, D8, MH1 Shield, MH2 Shield, MH3 Shield, MH4 Shield, MH5 Shield

## 44150-0013
designator J?
High Speed, Ganged, Right Angle, Snap-Fit Pegs, Low Profile Shielded, Modular Jack; Ports: 6; Positions/Loaded: All Ports - 8/8; PerformanceCategory: 5; PCB_Mounting: Thru-Hole; DrillSize: Nominal, Rounded to nearest 0.05mm; PCB_Layout: Complies with Manufacturer's Recommendation.; Published: 25-Jun-2002; DatasheetDocument: 12-Dec-2001; PackageDocument: 12-Dec-2001; PackageReference: 44150-0013; Publisher: Altium Limited; ComponentLink1Description: Manufacturer Link; ComponentLink1URL: http://www.molex.com/; ComponentLink2Description: Datasheet; ComponentLink2URL: http://www.molex.com/cmc_upload/common_files/1222003_mx44150.pdf
footprint 44150-0013 (Connector; PCB Jack, Thru-Hole; 6-Port, 8 Positions, 8 Loaded; Shielded without Lightpipes; Right Angle)
signal-integrity model Modular Jack
part A pins: A1, A2, A3, A4, A5, A6, A7, A8
part B pins: B1, B2, B3, B4, B5, B6, B7, B8
part C pins: C1, C2, C3, C4, C5, C6, C7, C8
part D pins: D1, D2, D3, D4, D5, D6, D7, D8
part E pins: E1, E2, E3, E4, E5, E6, E7, E8
part F pins: F1, F2, F3, F4, F5, F6, F7, F8, MH1 Shield, MH2 Shield, MH3 Shield, MH4 Shield, MH5 Shield, MH6 Shield, MH7 Shield

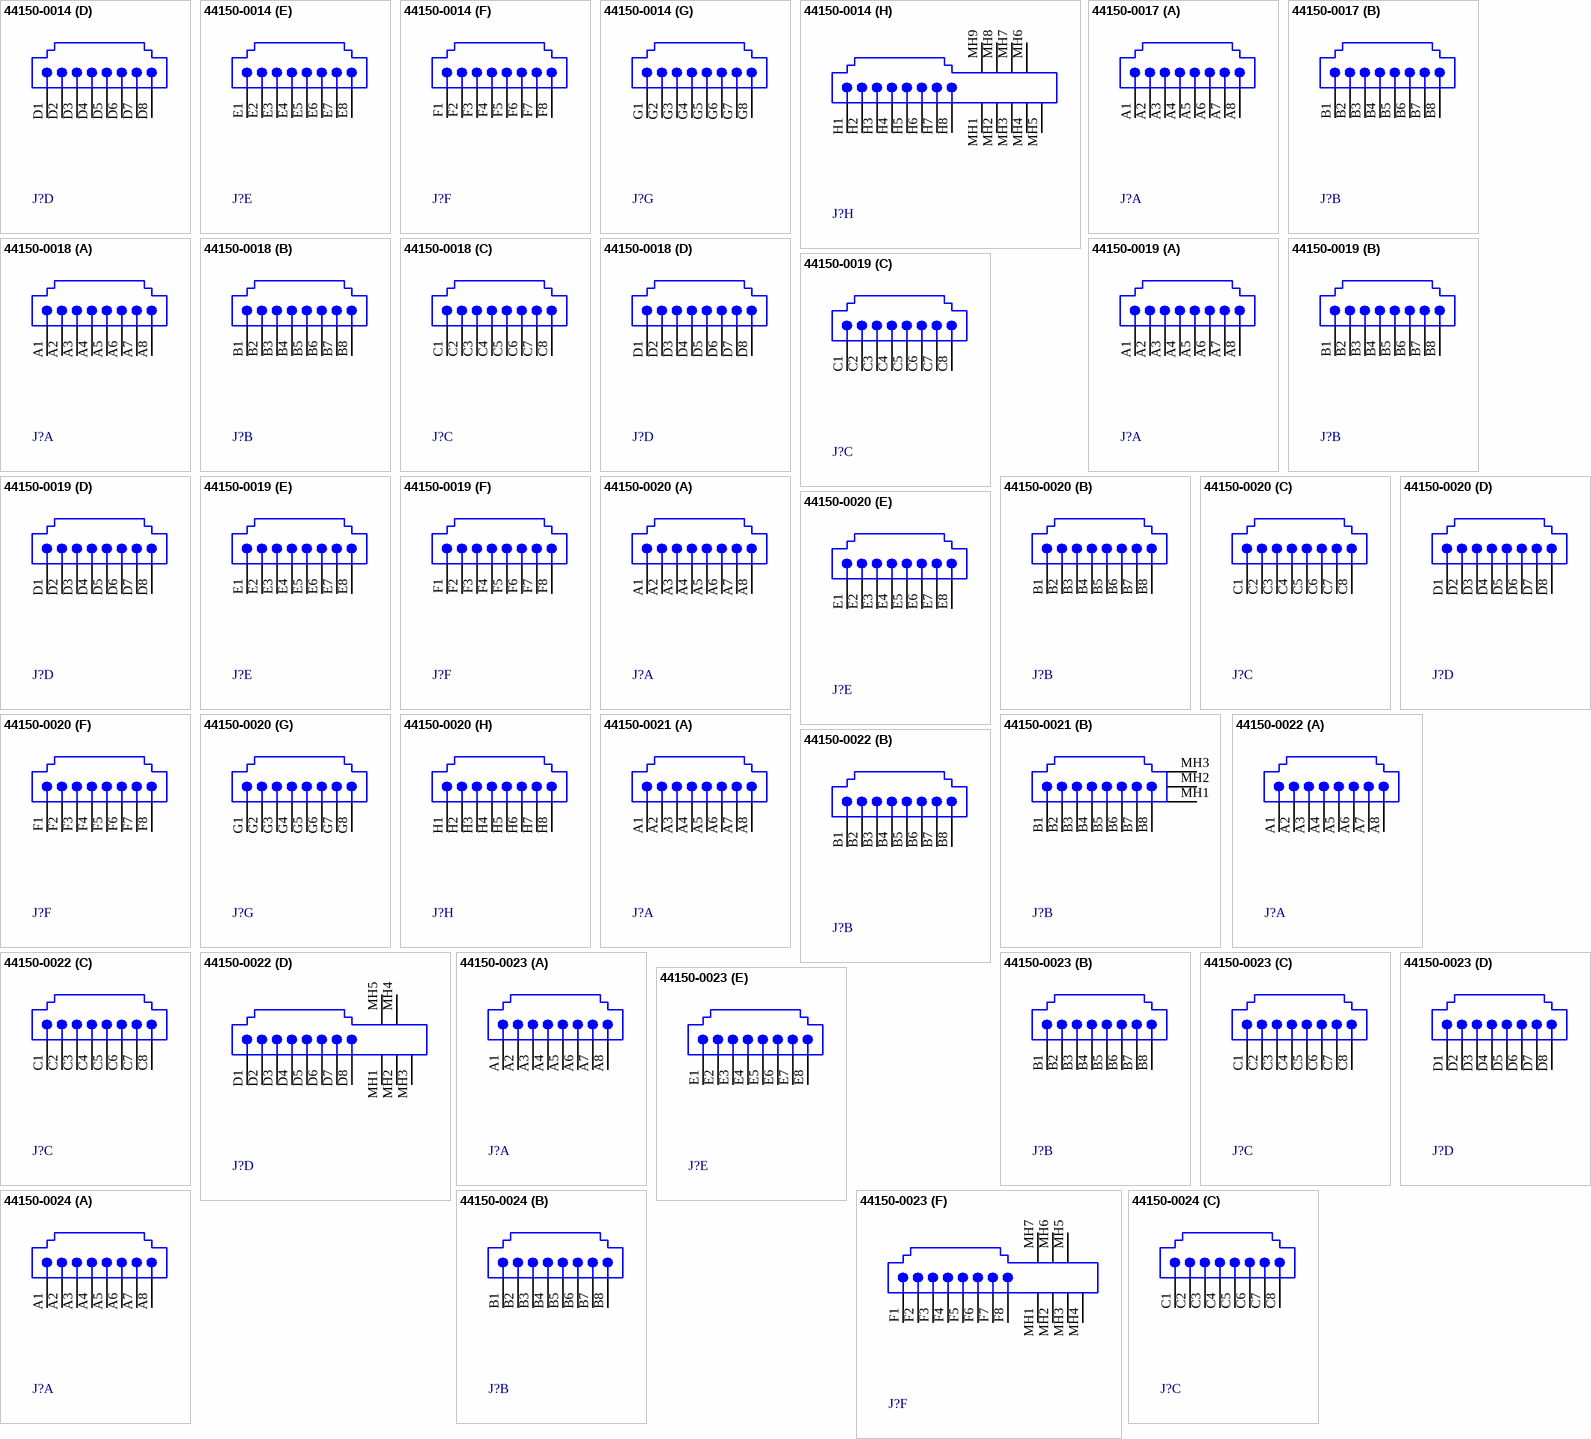
[diagram p9: symbols 44150-0014 to 44150-0024]

## 44150-0014
designator J?
High Speed, Ganged, Right Angle, Snap-Fit Pegs, Low Profile Shielded, Modular Jack; Ports: 8; Positions/Loaded: All Ports - 8/8; PerformanceCategory: 5; PCB_Mounting: Thru-Hole; DrillSize: Nominal, Rounded to nearest 0.05mm; PCB_Layout: Complies with Manufacturer's Recommendation.; Published: 25-Jun-2002; DatasheetDocument: 12-Dec-2001; PackageDocument: 12-Dec-2001; PackageReference: 44150-0014; Publisher: Altium Limited; ComponentLink1Description: Manufacturer Link; ComponentLink1URL: http://www.molex.com/; ComponentLink2Description: Datasheet; ComponentLink2URL: http://www.molex.com/cmc_upload/common_files/1222003_mx44150.pdf
footprint 44150-0014 (Connector; PCB Jack, Thru-Hole; 8-Port, 8 Positions, 8 Loaded; Shielded without Lightpipes; Right Angle)
signal-integrity model Modular Jack
part A pins: A1, A2, A3, A4, A5, A6, A7, A8
part B pins: B1, B2, B3, B4, B5, B6, B7, B8
part C pins: C1, C2, C3, C4, C5, C6, C7, C8
part D pins: D1, D2, D3, D4, D5, D6, D7, D8
part E pins: E1, E2, E3, E4, E5, E6, E7, E8
part F pins: F1, F2, F3, F4, F5, F6, F7, F8
part G pins: G1, G2, G3, G4, G5, G6, G7, G8
part H pins: H1, H2, H3, H4, H5, H6, H7, H8, MH1 Shield, MH2 Shield, MH3 Shield, MH4 Shield, MH5 Shield, MH6 Shield, MH7 Shield, MH8 Shield, MH9 Shield

## 44150-0017
designator J?
High Speed, Ganged, Right Angle, Press-Fit Pegs, Low Profile Unshielded, Modular Jack; Ports: 2; Positions/Loaded: All Ports - 8/8; PerformanceCategory: 5; PCB_Mounting: Thru-Hole; DrillSize: Nominal, Rounded to nearest 0.05mm; PCB_Layout: Complies with Manufacturer's Recommendation.; Published: 25-Jun-2002; DatasheetDocument: 12-Dec-2001; PackageDocument: 12-Dec-2001; PackageReference: 44150-0017; Publisher: Altium Limited; ComponentLink1Description: Manufacturer Link; ComponentLink1URL: http://www.molex.com/; ComponentLink2Description: Datasheet; ComponentLink2URL: http://www.molex.com/cmc_upload/common_files/1222003_mx44150.pdf
footprint 44150-0017 (Connector; PCB Jack, Thru-Hole; 2-Port, 8 Positions, 8 Loaded; Unshielded without Lightpipes; Right Angle)
signal-integrity model Modular Jack
part A pins: A1, A2, A3, A4, A5, A6, A7, A8
part B pins: B1, B2, B3, B4, B5, B6, B7, B8

## 44150-0018
designator J?
High Speed, Ganged, Right Angle, Press-Fit Pegs, Low Profile Unshielded, Modular Jack; Ports: 4; Positions/Loaded: All Ports - 8/8; PerformanceCategory: 5; PCB_Mounting: Thru-Hole; DrillSize: Nominal, Rounded to nearest 0.05mm; PCB_Layout: Complies with Manufacturer's Recommendation.; Published: 25-Jun-2002; DatasheetDocument: 12-Dec-2001; PackageDocument: 12-Dec-2001; PackageReference: 44150-0018; Publisher: Altium Limited; ComponentLink1Description: Manufacturer Link; ComponentLink1URL: http://www.molex.com/; ComponentLink2Description: Datasheet; ComponentLink2URL: http://www.molex.com/cmc_upload/common_files/1222003_mx44150.pdf
footprint 44150-0018 (Connector; PCB Jack, Thru-Hole; 4-Port, 8 Positions, 8 Loaded; Unshielded without Lightpipes; Right Angle)
signal-integrity model Modular Jack
part A pins: A1, A2, A3, A4, A5, A6, A7, A8
part B pins: B1, B2, B3, B4, B5, B6, B7, B8
part C pins: C1, C2, C3, C4, C5, C6, C7, C8
part D pins: D1, D2, D3, D4, D5, D6, D7, D8

## 44150-0019
designator J?
High Speed, Ganged, Right Angle, Press-Fit Pegs, Low Profile Unshielded, Modular Jack; Ports: 6; Positions/Loaded: All Ports - 8/8; PerformanceCategory: 5; PCB_Mounting: Thru-Hole; DrillSize: Nominal, Rounded to nearest 0.05mm; PCB_Layout: Complies with Manufacturer's Recommendation.; Published: 25-Jun-2002; DatasheetDocument: 12-Dec-2001; PackageDocument: 12-Dec-2001; PackageReference: 44150-0019; Publisher: Altium Limited; ComponentLink1Description: Manufacturer Link; ComponentLink1URL: http://www.molex.com/; ComponentLink2Description: Datasheet; ComponentLink2URL: http://www.molex.com/cmc_upload/common_files/1222003_mx44150.pdf
footprint 44150-0019 (Connector; PCB Jack, Thru-Hole; 6-Port, 8 Positions, 8 Loaded; Unshielded without Lightpipes; Right Angle)
signal-integrity model Modular Jack
part A pins: A1, A2, A3, A4, A5, A6, A7, A8
part B pins: B1, B2, B3, B4, B5, B6, B7, B8
part C pins: C1, C2, C3, C4, C5, C6, C7, C8
part D pins: D1, D2, D3, D4, D5, D6, D7, D8
part E pins: E1, E2, E3, E4, E5, E6, E7, E8
part F pins: F1, F2, F3, F4, F5, F6, F7, F8

## 44150-0020
designator J?
High Speed, Ganged, Right Angle, Press-Fit Pegs, Low Profile Unshielded, Modular Jack; Ports: 8; Positions/Loaded: All Ports - 8/8; PerformanceCategory: 5; PCB_Mounting: Thru-Hole; DrillSize: Nominal, Rounded to nearest 0.05mm; PCB_Layout: Complies with Manufacturer's Recommendation.; Published: 25-Jun-2002; DatasheetDocument: 12-Dec-2001; PackageDocument: 12-Dec-2001; PackageReference: 44150-0020; Publisher: Altium Limited; ComponentLink1Description: Manufacturer Link; ComponentLink1URL: http://www.molex.com/; ComponentLink2Description: Datasheet; ComponentLink2URL: http://www.molex.com/cmc_upload/common_files/1222003_mx44150.pdf
footprint 44150-0020 (Connector; PCB Jack, Thru-Hole; 8-Port, 8 Positions, 8 Loaded; Unshielded without Lightpipes; Right Angle)
signal-integrity model Modular Jack
part A pins: A1, A2, A3, A4, A5, A6, A7, A8
part B pins: B1, B2, B3, B4, B5, B6, B7, B8
part C pins: C1, C2, C3, C4, C5, C6, C7, C8
part D pins: D1, D2, D3, D4, D5, D6, D7, D8
part E pins: E1, E2, E3, E4, E5, E6, E7, E8
part F pins: F1, F2, F3, F4, F5, F6, F7, F8
part G pins: G1, G2, G3, G4, G5, G6, G7, G8
part H pins: H1, H2, H3, H4, H5, H6, H7, H8

## 44150-0021
designator J?
High Speed, Ganged, Right Angle, Press-Fit Pegs, Low Profile Shielded, Modular Jack; Ports: 2; Positions/Loaded: All Ports - 8/8; PerformanceCategory: 5; PCB_Mounting: Thru-Hole; DrillSize: Nominal, Rounded to nearest 0.05mm; PCB_Layout: Complies with Manufacturer's Recommendation.; Published: 25-Jun-2002; DatasheetDocument: 12-Dec-2001; PackageDocument: 12-Dec-2001; PackageReference: 44150-0021; Publisher: Altium Limited; ComponentLink1Description: Manufacturer Link; ComponentLink1URL: http://www.molex.com/; ComponentLink2Description: Datasheet; ComponentLink2URL: http://www.molex.com/cmc_upload/common_files/1222003_mx44150.pdf
footprint 44150-0021 (Connector; PCB Jack, Thru-Hole; 2-Port, 8 Positions, 8 Loaded; Shielded without Lightpipes; Right Angle)
signal-integrity model Modular Jack
part A pins: A1, A2, A3, A4, A5, A6, A7, A8
part B pins: B1, B2, B3, B4, B5, B6, B7, B8, MH1 Shield, MH2 Shield, MH3 Shield

## 44150-0022
designator J?
High Speed, Ganged, Right Angle, Press-Fit Pegs, Low Profile Shielded, Modular Jack; Ports: 4; Positions/Loaded: All Ports - 8/8; PerformanceCategory: 5; PCB_Mounting: Thru-Hole; DrillSize: Nominal, Rounded to nearest 0.05mm; PCB_Layout: Complies with Manufacturer's Recommendation.; Published: 25-Jun-2002; DatasheetDocument: 12-Dec-2001; PackageDocument: 12-Dec-2001; PackageReference: 44150-0022; Publisher: Altium Limited; ComponentLink1Description: Manufacturer Link; ComponentLink1URL: http://www.molex.com/; ComponentLink2Description: Datasheet; ComponentLink2URL: http://www.molex.com/cmc_upload/common_files/1222003_mx44150.pdf
footprint 44150-0022 (Connector; PCB Jack, Thru-Hole; 4-Port, 8 Positions, 8 Loaded; Shielded without Lightpipes; Right Angle)
signal-integrity model Modular Jack
part A pins: A1, A2, A3, A4, A5, A6, A7, A8
part B pins: B1, B2, B3, B4, B5, B6, B7, B8
part C pins: C1, C2, C3, C4, C5, C6, C7, C8
part D pins: D1, D2, D3, D4, D5, D6, D7, D8, MH1 Shield, MH2 Shield, MH3 Shield, MH4 Shield, MH5 Shield

## 44150-0023
designator J?
High Speed, Ganged, Right Angle, Press-Fit Pegs, Low Profile Shielded, Modular Jack; Ports: 6; Positions/Loaded: All Ports - 8/8; PerformanceCategory: 5; PCB_Mounting: Thru-Hole; DrillSize: Nominal, Rounded to nearest 0.05mm; PCB_Layout: Complies with Manufacturer's Recommendation.; Published: 25-Jun-2002; DatasheetDocument: 12-Dec-2001; PackageDocument: 12-Dec-2001; PackageReference: 44150-0023; Publisher: Altium Limited; ComponentLink1Description: Manufacturer Link; ComponentLink1URL: http://www.molex.com/; ComponentLink2Description: Datasheet; ComponentLink2URL: http://www.molex.com/cmc_upload/common_files/1222003_mx44150.pdf
footprint 44150-0023 (Connector; PCB Jack, Thru-Hole; 6-Port, 8 Positions, 8 Loaded; Shielded without Lightpipes; Right Angle)
signal-integrity model Modular Jack
part A pins: A1, A2, A3, A4, A5, A6, A7, A8
part B pins: B1, B2, B3, B4, B5, B6, B7, B8
part C pins: C1, C2, C3, C4, C5, C6, C7, C8
part D pins: D1, D2, D3, D4, D5, D6, D7, D8
part E pins: E1, E2, E3, E4, E5, E6, E7, E8
part F pins: F1, F2, F3, F4, F5, F6, F7, F8, MH1 Shield, MH2 Shield, MH3 Shield, MH4 Shield, MH5 Shield, MH6 Shield, MH7 Shield

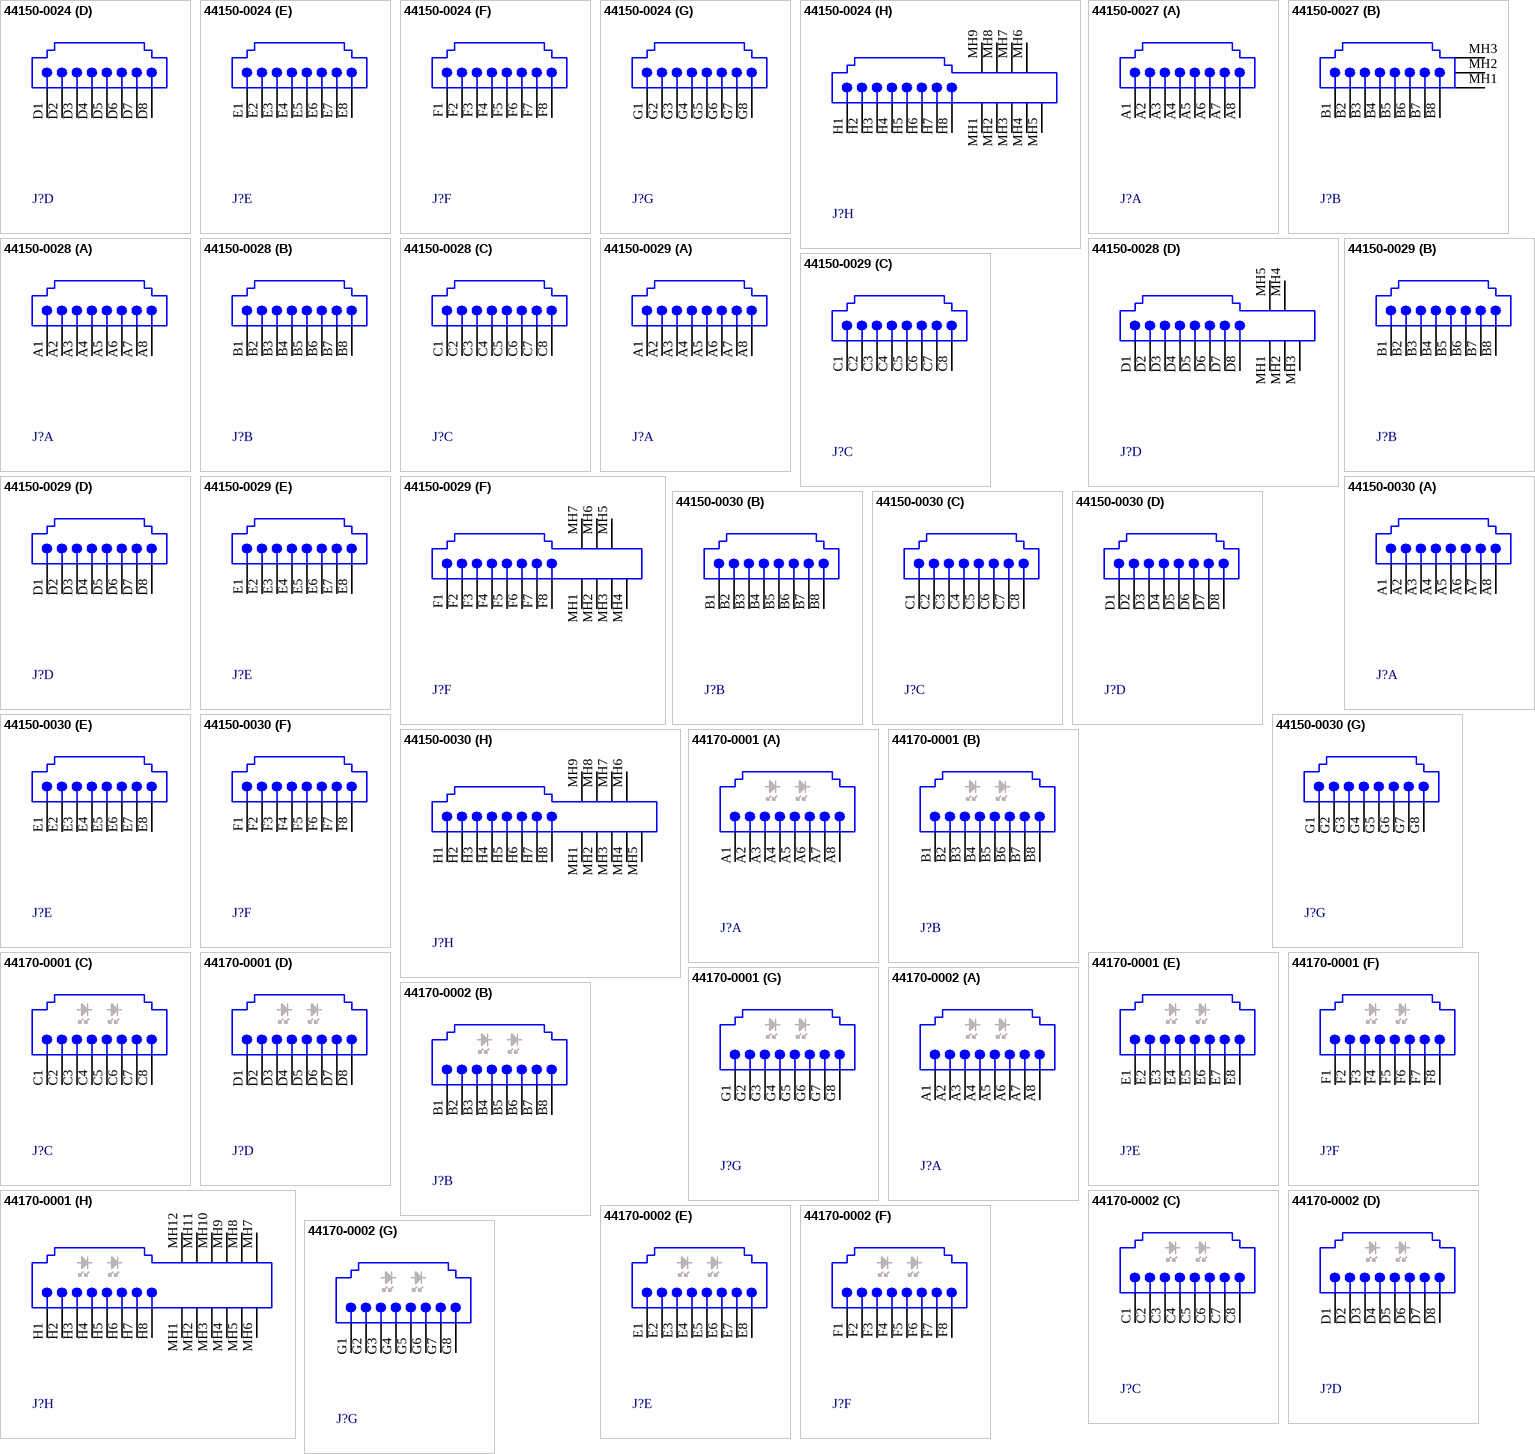
[diagram p10: symbols 44150-0024 to 44170-0002]

## 44150-0024
designator J?
High Speed, Ganged, Right Angle, Press-Fit Pegs, Low Profile Shielded, Modular Jack; Ports: 8; Positions/Loaded: All Ports - 8/8; PerformanceCategory: 5; PCB_Mounting: Thru-Hole; DrillSize: Nominal, Rounded to nearest 0.05mm; PCB_Layout: Complies with Manufacturer's Recommendation.; Published: 25-Jun-2002; DatasheetDocument: 12-Dec-2001; PackageDocument: 12-Dec-2001; PackageReference: 44150-0024; Publisher: Altium Limited; ComponentLink1Description: Manufacturer Link; ComponentLink1URL: http://www.molex.com/; ComponentLink2Description: Datasheet; ComponentLink2URL: http://www.molex.com/cmc_upload/common_files/1222003_mx44150.pdf
footprint 44150-0024 (Connector; PCB Jack, Thru-Hole; 8-Port, 8 Positions, 8 Loaded; Shielded without Lightpipes; Right Angle)
signal-integrity model Modular Jack
part A pins: A1, A2, A3, A4, A5, A6, A7, A8
part B pins: B1, B2, B3, B4, B5, B6, B7, B8
part C pins: C1, C2, C3, C4, C5, C6, C7, C8
part D pins: D1, D2, D3, D4, D5, D6, D7, D8
part E pins: E1, E2, E3, E4, E5, E6, E7, E8
part F pins: F1, F2, F3, F4, F5, F6, F7, F8
part G pins: G1, G2, G3, G4, G5, G6, G7, G8
part H pins: H1, H2, H3, H4, H5, H6, H7, H8, MH1 Shield, MH2 Shield, MH3 Shield, MH4 Shield, MH5 Shield, MH6 Shield, MH7 Shield, MH8 Shield, MH9 Shield

## 44150-0027
designator J?
High Speed, Ganged, Right Angle, Press-Fit Pegs, Low Profile Shielded, Modular Jack; Ports: 2; Positions/Loaded: All Ports - 8/8; PerformanceCategory: 5; PCB_Mounting: Thru-Hole; DrillSize: Nominal, Rounded to nearest 0.05mm; PCB_Layout: Complies with Manufacturer's Recommendation.; Published: 25-Jun-2002; DatasheetDocument: 12-Dec-2001; PackageDocument: 12-Dec-2001; PackageReference: 44150-0027; Publisher: Altium Limited; ComponentLink1Description: Manufacturer Link; ComponentLink1URL: http://www.molex.com/; ComponentLink2Description: Datasheet; ComponentLink2URL: http://www.molex.com/cmc_upload/common_files/1222003_mx44150.pdf
footprint 44150-0027 (Connector; PCB Jack, Thru-Hole; 2-Port, 8 Positions, 8 Loaded; Shielded without Lightpipes; Right Angle)
signal-integrity model Modular Jack
part A pins: A1, A2, A3, A4, A5, A6, A7, A8
part B pins: B1, B2, B3, B4, B5, B6, B7, B8, MH1 Shield, MH2 Shield, MH3 Shield

## 44150-0028
designator J?
High Speed, Ganged, Right Angle, Press-Fit Pegs, Low Profile Shielded, Modular Jack; Ports: 4; Positions/Loaded: All Ports - 8/8; PerformanceCategory: 5; PCB_Mounting: Thru-Hole; DrillSize: Nominal, Rounded to nearest 0.05mm; PCB_Layout: Complies with Manufacturer's Recommendation.; Published: 25-Jun-2002; DatasheetDocument: 12-Dec-2001; PackageDocument: 12-Dec-2001; PackageReference: 44150-0028; Publisher: Altium Limited; ComponentLink1Description: Manufacturer Link; ComponentLink1URL: http://www.molex.com/; ComponentLink2Description: Datasheet; ComponentLink2URL: http://www.molex.com/cmc_upload/common_files/1222003_mx44150.pdf
footprint 44150-0028 (Connector; PCB Jack, Thru-Hole; 4-Port, 8 Positions, 8 Loaded; Shielded without Lightpipes; Right Angle)
signal-integrity model Modular Jack
part A pins: A1, A2, A3, A4, A5, A6, A7, A8
part B pins: B1, B2, B3, B4, B5, B6, B7, B8
part C pins: C1, C2, C3, C4, C5, C6, C7, C8
part D pins: D1, D2, D3, D4, D5, D6, D7, D8, MH1 Shield, MH2 Shield, MH3 Shield, MH4 Shield, MH5 Shield

## 44150-0029
designator J?
High Speed, Ganged, Right Angle, Press-Fit Pegs, Low Profile Shielded, Modular Jack; Ports: 6; Positions/Loaded: All Ports - 8/8; PerformanceCategory: 5; PCB_Mounting: Thru-Hole; DrillSize: Nominal, Rounded to nearest 0.05mm; PCB_Layout: Complies with Manufacturer's Recommendation.; Published: 25-Jun-2002; DatasheetDocument: 12-Dec-2001; PackageDocument: 12-Dec-2001; PackageReference: 44150-0029; Publisher: Altium Limited; ComponentLink1Description: Manufacturer Link; ComponentLink1URL: http://www.molex.com/; ComponentLink2Description: Datasheet; ComponentLink2URL: http://www.molex.com/cmc_upload/common_files/1222003_mx44150.pdf
footprint 44150-0029 (Connector; PCB Jack, Thru-Hole; 6-Port, 8 Positions, 8 Loaded; Shielded without Lightpipes; Right Angle)
signal-integrity model Modular Jack
part A pins: A1, A2, A3, A4, A5, A6, A7, A8
part B pins: B1, B2, B3, B4, B5, B6, B7, B8
part C pins: C1, C2, C3, C4, C5, C6, C7, C8
part D pins: D1, D2, D3, D4, D5, D6, D7, D8
part E pins: E1, E2, E3, E4, E5, E6, E7, E8
part F pins: F1, F2, F3, F4, F5, F6, F7, F8, MH1 Shield, MH2 Shield, MH3 Shield, MH4 Shield, MH5 Shield, MH6 Shield, MH7 Shield

## 44150-0030
designator J?
High Speed, Ganged, Right Angle, Press-Fit Pegs, Low Profile Shielded, Modular Jack; Ports: 8; Positions/Loaded: All Ports - 8/8; PerformanceCategory: 5; PCB_Mounting: Thru-Hole; DrillSize: Nominal, Rounded to nearest 0.05mm; PCB_Layout: Complies with Manufacturer's Recommendation.; Published: 25-Jun-2002; DatasheetDocument: 12-Dec-2001; PackageDocument: 12-Dec-2001; PackageReference: 44150-0030; Publisher: Altium Limited; ComponentLink1Description: Manufacturer Link; ComponentLink1URL: http://www.molex.com/; ComponentLink2Description: Datasheet; ComponentLink2URL: http://www.molex.com/cmc_upload/common_files/1222003_mx44150.pdf
footprint 44150-0030 (Connector; PCB Jack, Thru-Hole; 8-Port, 8 Positions, 8 Loaded; Shielded without Lightpipes; Right Angle)
signal-integrity model Modular Jack
part A pins: A1, A2, A3, A4, A5, A6, A7, A8
part B pins: B1, B2, B3, B4, B5, B6, B7, B8
part C pins: C1, C2, C3, C4, C5, C6, C7, C8
part D pins: D1, D2, D3, D4, D5, D6, D7, D8
part E pins: E1, E2, E3, E4, E5, E6, E7, E8
part F pins: F1, F2, F3, F4, F5, F6, F7, F8
part G pins: G1, G2, G3, G4, G5, G6, G7, G8
part H pins: H1, H2, H3, H4, H5, H6, H7, H8, MH1 Shield, MH2 Shield, MH3 Shield, MH4 Shield, MH5 Shield, MH6 Shield, MH7 Shield, MH8 Shield, MH9 Shield